# EAGLE library part LED_BARGRAPH_10 (library ws28)
Young Sun LED Tech - YSLB-10251G5-10 10-Segment LED Bar Graph Features: Red Vf = 2.1V, Ifmax = 20mA Yellow Vf = 2.1V, Ifmax = 20mA Blue Vf = 3.4V, Ifmax = 20mA Green Vf = 3.4V, Ifmax = 20mA SparkFun Products: Red <https://www.sparkfun.com/products/9935> Yellow <https://www.sparkfun.com/products/9936> Green <https://www.sparkfun.com/products/9938> Blue <https://www.sparkfun.com/products/9937>
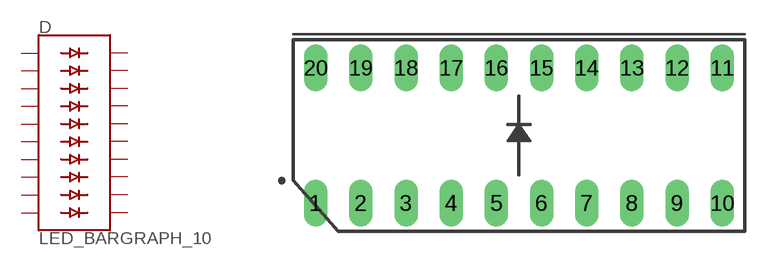
[diagram p3: symbol with the pads of LED_BARGRAPH_10; footprint LED_BARGRAPH_10]

Designator prefix D

## LED_BARGRAPH_10RED (PROD_ID: DIO-10615; VALUE: RED)  [LED_BARGRAPH_10]
1  A  pas
2  A1  pas
3  A2  pas
4  A3  pas
5  A4  pas
6  A5  pas
7  A6  pas
8  A7  pas
9  A8  pas
10  A9  pas
11  C9  pas
12  C8  pas
13  C7  pas
14  C6  pas
15  C5  pas
16  C4  pas
17  C3  pas
18  C2  pas
19  C1  pas
20  C  pas

## LED_BARGRAPH_10YELLOW (PROD_ID: DIO-10614; VALUE: YELLOW)  [LED_BARGRAPH_10]
Pads as for LED_BARGRAPH_10

## LED_BARGRAPH_10BLUE (PROD_ID: DIO-10613; VALUE: BLUE)  [LED_BARGRAPH_10]
Pads as for LED_BARGRAPH_10

## LED_BARGRAPH_10GREEN (PROD_ID: DIO-10612; VALUE: GREEN)  [LED_BARGRAPH_10]
Pads as for LED_BARGRAPH_10

## Footprint LED_BARGRAPH_10 (pad centres in mm)
10 Segment LED Bar Graph Specifications: Pin count: 20 Pin pitch: 1.74mm Area:10mm x 25.5mm Datasheet referenced for footprint: YSLB-102510B5 <https://www.sparkfun.com/datasheets/Components/LED/YSLB-102510B5-10.pdf>
drill 0.813 long: 1 -11.43,-3.81; 2 -8.89,-3.81; 3 -6.35,-3.81; 4 -3.81,-3.81; 5 -1.27,-3.81; 6 1.27,-3.81; 7 3.81,-3.81; 8 6.35,-3.81; 9 8.89,-3.81; 10 11.43,-3.81; 11 11.43,3.81; 12 8.89,3.81; 13 6.35,3.81; 14 3.81,3.81; 15 1.27,3.81; 16 -1.27,3.81; 17 -3.81,3.81; 18 -6.35,3.81; 19 -8.89,3.81; 20 -11.43,3.81